# Altium schematic symbol library MRF24J40MDT-I_RM.SchLib: 1 symbol
Pins are listed as number, name and electrical type; pins without a type are passive.

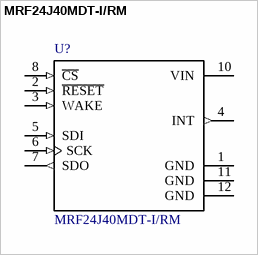
[diagram p0: symbol MRF24J40MDT-I/RM]

## MRF24J40MDT-I/RM
designator U?
2.4 GHz IEEE 802.15.4 Certified Transceiver Module (+20 dBm), 12 MODULE Varies T/R; MF: Microchip; Price: 14.78 USD; Availability: Good; MP: MRF24J40MDT-I/RM; Package: SMD-12 Microchip; Value: *
footprint XCVR_MRF24J40MDT-I/RM
pins: 1 GND (power), 2 ~{RESET} (in), 3 WAKE (in), 4 INT (out), 5 SDI (in), 6 SCK (in), 7 SDO (out), 8 ~{CS} (in), 10 VIN (power), 11 GND (power), 12 GND (power)